# EAGLE library part HDR_1X08 (library sj_connectors)
1x08 - 0.1" Pin Header
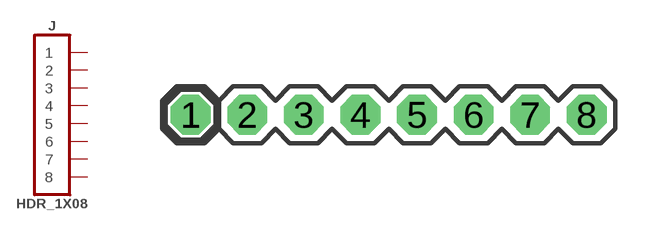
[diagram p3: symbol with the pads of HDR_1X08; footprint HDR_1X08]

Designator prefix J

## HDR_1X08  [HDR_1X08]
1  1  pas
2  2  pas
3  3  pas
4  4  pas
5  5  pas
6  6  pas
7  7  pas
8  8  pas

## Footprint HDR_1X08 (pad centres in mm)
1x08 - 0.1" Pin Header Package
drill 0.838 pad 1.778 octagon: 1 0,0; 2 2.54,0; 3 5.08,0; 4 7.62,0; 5 10.16,0; 6 12.7,0; 7 15.24,0; 8 17.78,0